# Altium schematic symbol library HL7588.SchLib: 1 symbol
Pins are listed as number, name and electrical type; pins without a type are passive.

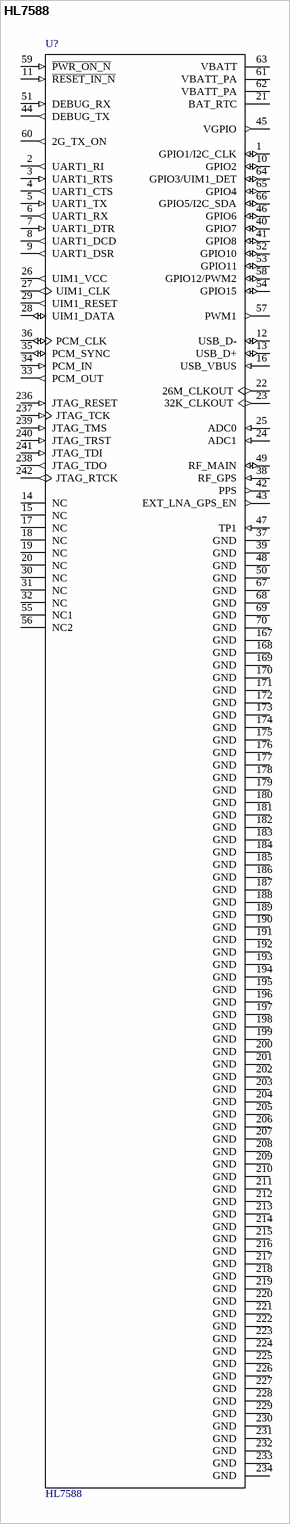
[diagram p0: symbol HL7588]

## HL7588
designator U?
SnapEDA_Link: https://www.snapeda.com/parts/HL7588/Sierra%20Wireless/view-part/581526/?ref=snap; Value: *
footprint *XCVR_HL7588
pins: 1 GPIO1/I2C_CLK (io), 2 UART1_RI (out), 3 UART1_RTS (in), 4 UART1_CTS (out), 5 UART1_TX (in), 6 UART1_RX (out), 7 UART1_DTR (in), 8 UART1_DCD (out), 9 UART1_DSR (out), 10 GPIO2 (io), 11 ~{RESET_IN_N} (in), 12 USB_D- (io), 13 USB_D+ (io), 14 NC, 15 NC, 16 USB_VBUS (in), 17 NC, 18 NC, 19 NC, 20 NC, 21 BAT_RTC (power), 22 26M_CLKOUT (out), 23 32K_CLKOUT (out), 24 ADC1 (in), 25 ADC0 (in), 26 UIM1_VCC (out), 27 UIM1_CLK (out), 28 UIM1_DATA (io), 29 UIM1_RESET (out), 30 NC, 31 NC, 32 NC, 33 PCM_OUT (out), 34 PCM_IN (in), 35 PCM_SYNC (io), 36 PCM_CLK (io), 37 GND (power), 38 RF_GPS (in), 39 GND (power), 40 GPIO7 (io), 41 GPIO8 (io), 42 PPS (out), 43 EXT_LNA_GPS_EN (out), 44 DEBUG_TX (out), 45 VGPIO (out), 46 GPIO6 (io), 47 TP1 (in), 48 GND (power), 49 RF_MAIN (io), 50 GND (power), 51 DEBUG_RX (in), 52 GPIO10 (io), 53 GPIO11 (io), 54 GPIO15 (io), 55 NC1, 56 NC2, 57 PWM1 (out), 58 GPIO12/PWM2 (io), 59 ~{PWR_ON_N} (in), 60 2G_TX_ON (out), 61 VBATT_PA (power), 62 VBATT_PA (power), 63 VBATT (power), 64 GPIO3/UIM1_DET (io), 65 GPIO4 (io), 66 GPIO5/I2C_SDA (io), 67 GND (power), 68 GND (power), 69 GND (power), 70 GND (power), 167 GND (power), 168 GND (power), 169 GND (power), 170 GND (power), 171 GND (power), 172 GND (power), 173 GND (power), 174 GND (power), 175 GND (power), 176 GND (power), 177 GND (power), 178 GND (power), 179 GND (power), 180 GND (power), 181 GND (power), 182 GND (power), 183 GND (power), 184 GND (power), 185 GND (power), 186 GND (power), 187 GND (power), 188 GND (power), 189 GND (power), 190 GND (power), 191 GND (power), 192 GND (power), 193 GND (power), 194 GND (power), 195 GND (power), 196 GND (power), 197 GND (power), 198 GND (power), 199 GND (power), 200 GND (power), 201 GND (power), 202 GND (power), 203 GND (power), 204 GND (power), 205 GND (power), 206 GND (power), 207 GND (power), 208 GND (power), 209 GND (power), 210 GND (power), 211 GND (power), 212 GND (power), 213 GND (power), 214 GND (power), 215 GND (power), 216 GND (power), 217 GND (power), 218 GND (power), 219 GND (power), 220 GND (power), 221 GND (power), 222 GND (power), 223 GND (power), 224 GND (power), 225 GND (power), 226 GND (power), 227 GND (power), 228 GND (power), 229 GND (power), 230 GND (power), 231 GND (power), 232 GND (power), 233 GND (power), 234 GND (power), 236 JTAG_RESET (in), 237 JTAG_TCK (in), 238 JTAG_TDO (out), 239 JTAG_TMS (in), 240 JTAG_TRST (in), 241 JTAG_TDI (in), 242 JTAG_RTCK (out)